# EAGLE library part ICE40HX4K (library ICE40HX)
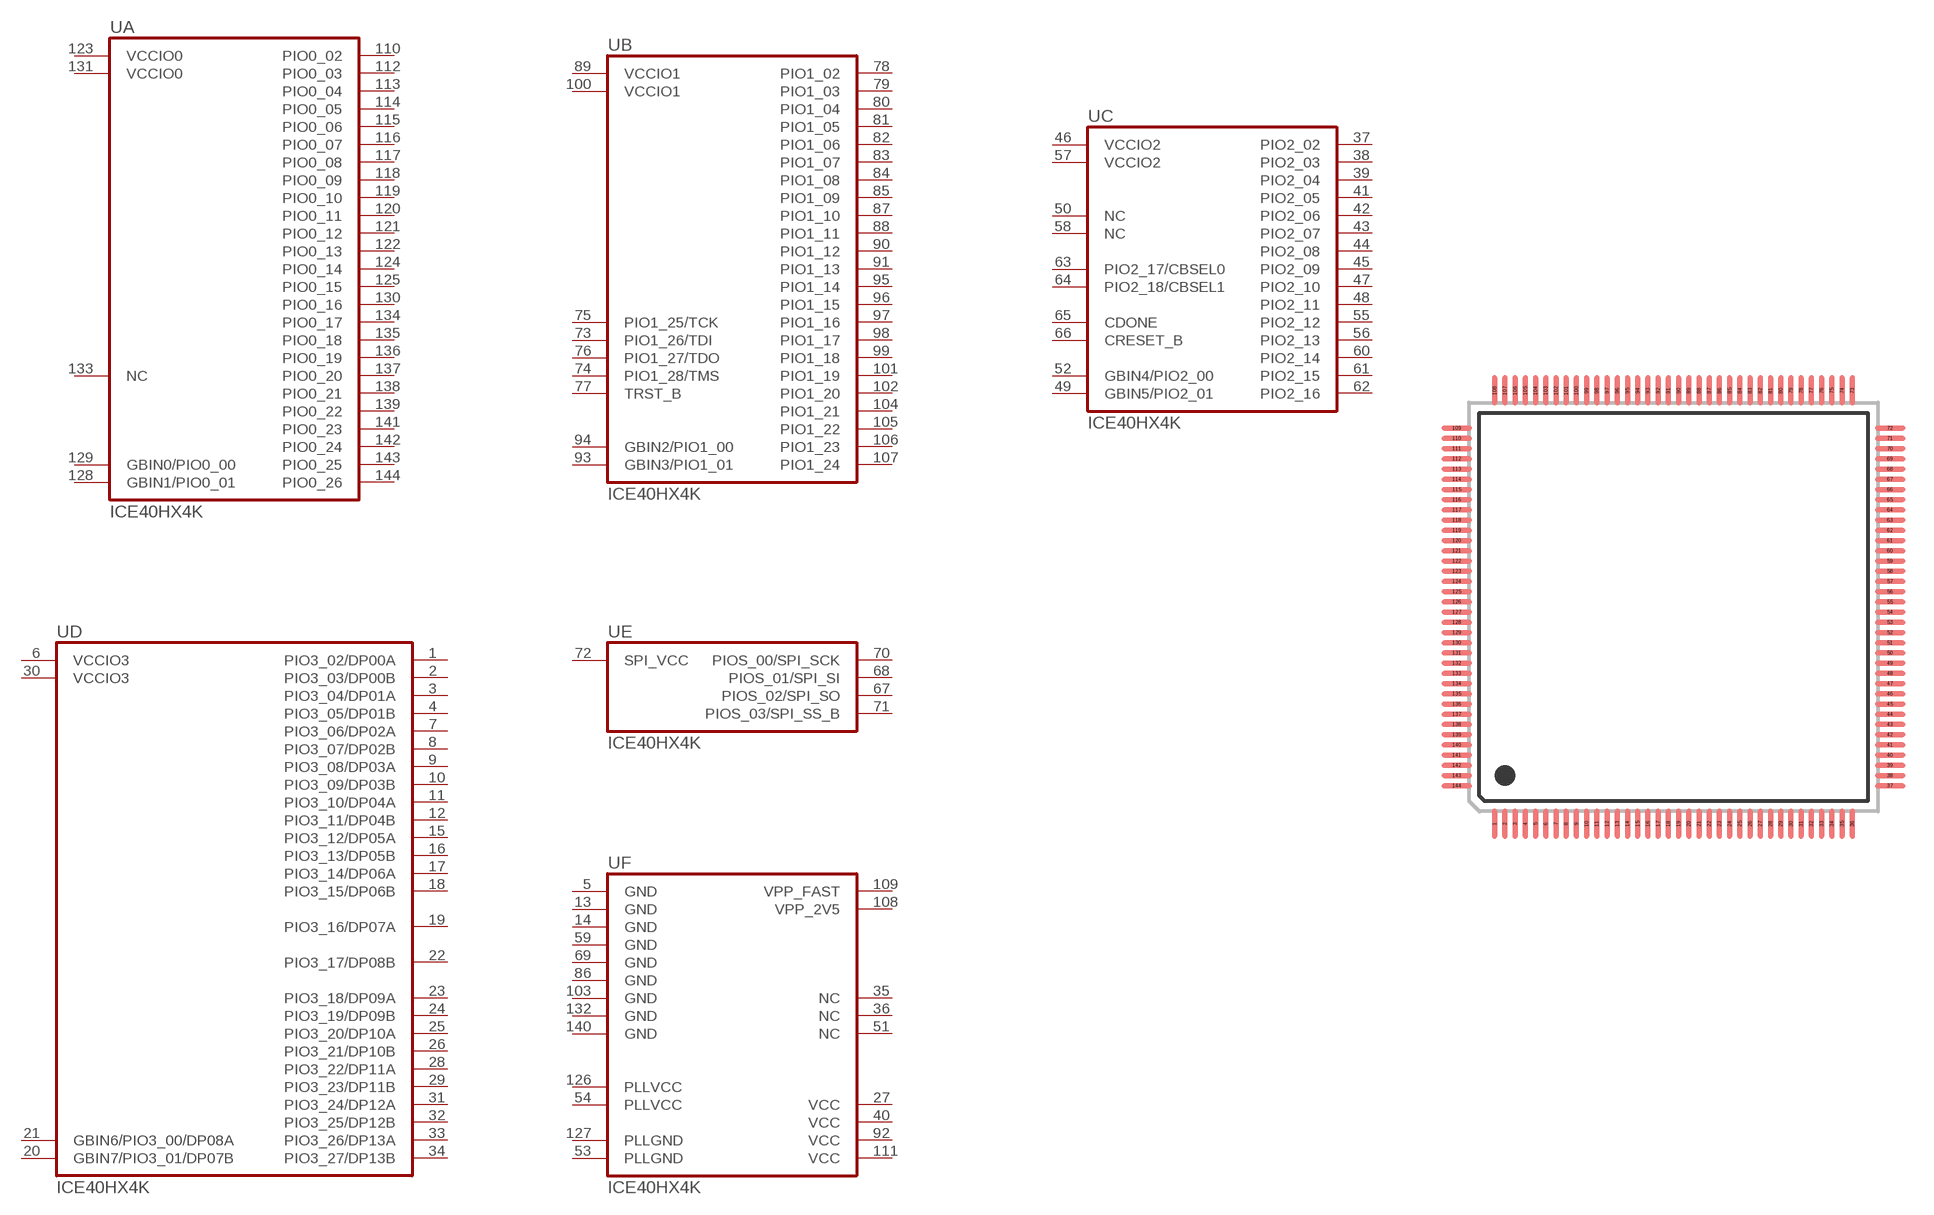
[diagram p0: symbol with the pads of TQFP144; footprint TQFP144]

Designator prefix U; gates A=ICE40HX4K-BANK0 B=ICE40HX4K-BANK1 C=ICE40HX4K-BANK2 D=ICE40HX4K-BANK3 E=ICE40HX4K-SPI F=ICE40HX4K-PWR

## ICE40HX4K  [TQFP144]
1  D:PIO3_02/DP00A
2  D:PIO3_03/DP00B
3  D:PIO3_04/DP01A
4  D:PIO3_05/DP01B
5  F:GND  pwr
6  D:VCCIO3  pwr
7  D:PIO3_06/DP02A
8  D:PIO3_07/DP02B
9  D:PIO3_08/DP03A
10  D:PIO3_09/DP03B
11  D:PIO3_10/DP04A
12  D:PIO3_11/DP04B
13  F:GND  pwr
14  F:GND  pwr
15  D:PIO3_12/DP05A
16  D:PIO3_13/DP05B
17  D:PIO3_14/DP06A
18  D:PIO3_15/DP06B
19  D:PIO3_16/DP07A
20  D:GBIN7/PIO3_01/DP07B
21  D:GBIN6/PIO3_00/DP08A
22  D:PIO3_17/DP08B
23  D:PIO3_18/DP09A
24  D:PIO3_19/DP09B
25  D:PIO3_20/DP10A
26  D:PIO3_21/DP10B
27  F:VCC  pwr
28  D:PIO3_22/DP11A
29  D:PIO3_23/DP11B
30  D:VCCIO3  pwr
31  D:PIO3_24/DP12A
32  D:PIO3_25/DP12B
33  D:PIO3_26/DP13A
34  D:PIO3_27/DP13B
35  F:NC  nc
36  F:NC  nc
37  C:PIO2_02
38  C:PIO2_03
39  C:PIO2_04
40  F:VCC  pwr
41  C:PIO2_05
42  C:PIO2_06
43  C:PIO2_07
44  C:PIO2_08
45  C:PIO2_09
46  C:VCCIO2  pwr
47  C:PIO2_10
48  C:PIO2_11
49  C:GBIN5/PIO2_01
50  C:NC  nc
51  F:NC  nc
52  C:GBIN4/PIO2_00
53  F:PLLGND  pwr
54  F:PLLVCC  pwr
55  C:PIO2_12
56  C:PIO2_13
57  C:VCCIO2  pwr
58  C:NC  nc
59  F:GND  pwr
60  C:PIO2_14
61  C:PIO2_15
62  C:PIO2_16
63  C:PIO2_17/CBSEL0
64  C:PIO2_18/CBSEL1
65  C:CDONE
66  C:CRESET_B
67  E:PIOS_02/SPI_SO
68  E:PIOS_01/SPI_SI
69  F:GND  pwr
70  E:PIOS_00/SPI_SCK
71  E:PIOS_03/SPI_SS_B
72  E:SPI_VCC  pwr
73  B:PIO1_26/TDI
74  B:PIO1_28/TMS
75  B:PIO1_25/TCK
76  B:PIO1_27/TDO
77  B:TRST_B
78  B:PIO1_02
79  B:PIO1_03
80  B:PIO1_04
81  B:PIO1_05
82  B:PIO1_06
83  B:PIO1_07
84  B:PIO1_08
85  B:PIO1_09
86  F:GND  pwr
87  B:PIO1_10
88  B:PIO1_11
89  B:VCCIO1  pwr
90  B:PIO1_12
91  B:PIO1_13
92  F:VCC  pwr
93  B:GBIN3/PIO1_01
94  B:GBIN2/PIO1_00
95  B:PIO1_14
96  B:PIO1_15
97  B:PIO1_16
98  B:PIO1_17
99  B:PIO1_18
100  B:VCCIO1  pwr
101  B:PIO1_19
102  B:PIO1_20
103  F:GND  pwr
104  B:PIO1_21
105  B:PIO1_22
106  B:PIO1_23
107  B:PIO1_24
108  F:VPP_2V5  pwr
109  F:VPP_FAST  pwr
110  A:PIO0_02
111  F:VCC  pwr
112  A:PIO0_03
113  A:PIO0_04
114  A:PIO0_05
115  A:PIO0_06
116  A:PIO0_07
117  A:PIO0_08
118  A:PIO0_09
119  A:PIO0_10
120  A:PIO0_11
121  A:PIO0_12
122  A:PIO0_13
123  A:VCCIO0  pwr
124  A:PIO0_14
125  A:PIO0_15
126  F:PLLVCC  pwr
127  F:PLLGND  pwr
128  A:GBIN1/PIO0_01
129  A:GBIN0/PIO0_00
130  A:PIO0_16
131  A:VCCIO0  pwr
132  F:GND  pwr
133  A:NC
134  A:PIO0_17
135  A:PIO0_18
136  A:PIO0_19
137  A:PIO0_20
138  A:PIO0_21
139  A:PIO0_22
140  F:GND  pwr
141  A:PIO0_23
142  A:PIO0_24
143  A:PIO0_25
144  A:PIO0_26

## Footprint TQFP144 (pad centres in mm)
TQFP144 thin quad flat pack, square (smd-ipc)
smd 0.25 x 1.5: 1 -8.75,-10.6; 2 -8.25,-10.6; 3 -7.75,-10.6; 4 -7.25,-10.6; 5 -6.75,-10.6; 6 -6.25,-10.6; 7 -5.75,-10.6; 8 -5.25,-10.6; 9 -4.75,-10.6; 10 -4.25,-10.6; 11 -3.75,-10.6; 12 -3.25,-10.6; 13 -2.75,-10.6; 14 -2.25,-10.6; 15 -1.75,-10.6; 16 -1.25,-10.6; 17 -0.75,-10.6; 18 -0.25,-10.6; 19 0.25,-10.6; 20 0.75,-10.6; 21 1.25,-10.6; 22 1.75,-10.6; 23 2.25,-10.6; 24 2.75,-10.6; 25 3.25,-10.6; 26 3.75,-10.6; 27 4.25,-10.6; 28 4.75,-10.6; 29 5.25,-10.6; 30 5.75,-10.6; 31 6.25,-10.6; 32 6.75,-10.6; 33 7.25,-10.6; 34 7.75,-10.6; 35 8.25,-10.6; 36 8.75,-10.6; 73 8.75,10.6; 74 8.25,10.6; 75 7.75,10.6; 76 7.25,10.6; 77 6.75,10.6; 78 6.25,10.6; 79 5.75,10.6; 80 5.25,10.6; 81 4.75,10.6; 82 4.25,10.6; 83 3.75,10.6; 84 3.25,10.6; 85 2.75,10.6; 86 2.25,10.6; 87 1.75,10.6; 88 1.25,10.6; 89 0.75,10.6; 90 0.25,10.6; 91 -0.25,10.6; 92 -0.75,10.6; 93 -1.25,10.6; 94 -1.75,10.6; 95 -2.25,10.6; 96 -2.75,10.6; 97 -3.25,10.6; 98 -3.75,10.6; 99 -4.25,10.6; 100 -4.75,10.6; 101 -5.25,10.6; 102 -5.75,10.6; 103 -6.25,10.6; 104 -6.75,10.6; 105 -7.25,10.6; 106 -7.75,10.6; 107 -8.25,10.6; 108 -8.75,10.6
smd 1.5 x 0.25: 37 10.6,-8.75; 38 10.6,-8.25; 39 10.6,-7.75; 40 10.6,-7.25; 41 10.6,-6.75; 42 10.6,-6.25; 43 10.6,-5.75; 44 10.6,-5.25; 45 10.6,-4.75; 46 10.6,-4.25; 47 10.6,-3.75; 48 10.6,-3.25; 49 10.6,-2.75; 50 10.6,-2.25; 51 10.6,-1.75; 52 10.6,-1.25; 53 10.6,-0.75; 54 10.6,-0.25; 55 10.6,0.25; 56 10.6,0.75; 57 10.6,1.25; 58 10.6,1.75; 59 10.6,2.25; 60 10.6,2.75; 61 10.6,3.25; 62 10.6,3.75; 63 10.6,4.25; 64 10.6,4.75; 65 10.6,5.25; 66 10.6,5.75; 67 10.6,6.25; 68 10.6,6.75; 69 10.6,7.25; 70 10.6,7.75; 71 10.6,8.25; 72 10.6,8.75; 109 -10.6,8.75; 110 -10.6,8.25; 111 -10.6,7.75; 112 -10.6,7.25; 113 -10.6,6.75; 114 -10.6,6.25; 115 -10.6,5.75; 116 -10.6,5.25; 117 -10.6,4.75; 118 -10.6,4.25; 119 -10.6,3.75; 120 -10.6,3.25; 121 -10.6,2.75; 122 -10.6,2.25; 123 -10.6,1.75; 124 -10.6,1.25; 125 -10.6,0.75; 126 -10.6,0.25; 127 -10.6,-0.25; 128 -10.6,-0.75; 129 -10.6,-1.25; 130 -10.6,-1.75; 131 -10.6,-2.25; 132 -10.6,-2.75; 133 -10.6,-3.25; 134 -10.6,-3.75; 135 -10.6,-4.25; 136 -10.6,-4.75; 137 -10.6,-5.25; 138 -10.6,-5.75; 139 -10.6,-6.25; 140 -10.6,-6.75; 141 -10.6,-7.25; 142 -10.6,-7.75; 143 -10.6,-8.25; 144 -10.6,-8.75